# Altium schematic symbol library AutoBikeRev.SchLib: 23 symbols
Pins are listed as number, name and electrical type; pins without a type are passive.

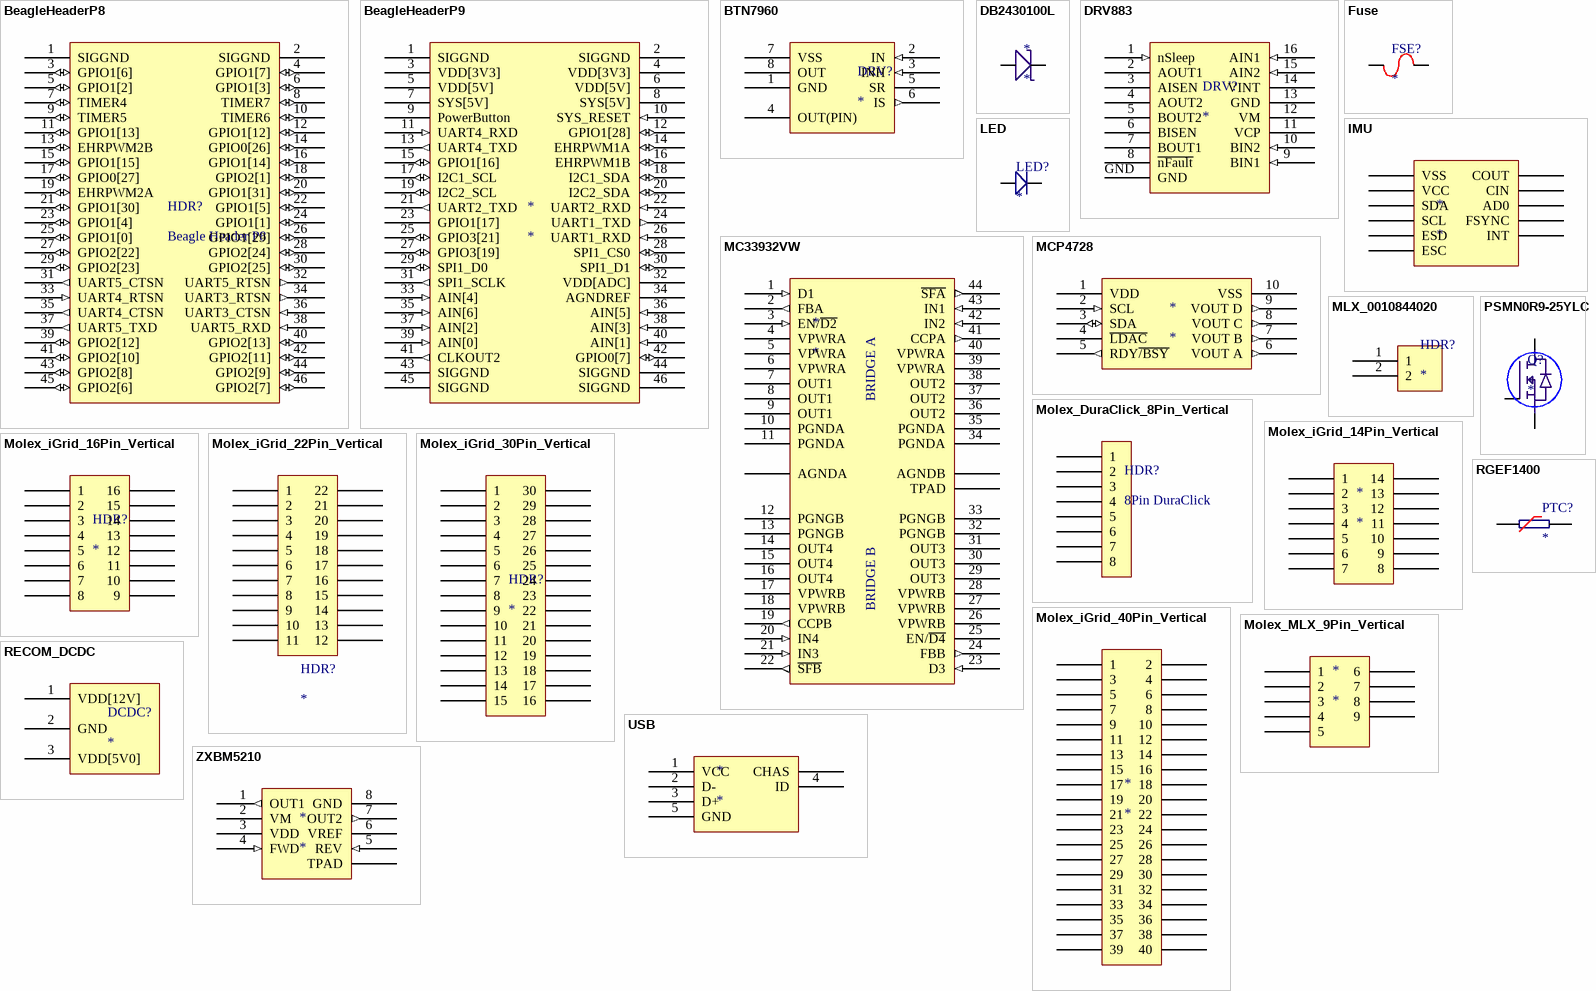
[diagram p0: symbols BeagleHeaderP8 to ZXBM5210]

## BeagleHeaderP8
designator HDR?, comment Beagle Header P8
footprint 46PinHeader
pins: 1 SIGGND (power), 2 SIGGND (power), 3 GPIO1[6] (io), 4 GPIO1[7] (io), 5 GPIO1[2] (io), 6 GPIO1[3] (io), 7 TIMER4 (io), 8 TIMER7 (io), 9 TIMER5 (io), 10 TIMER6 (io), 11 GPIO1[13] (io), 12 GPIO1[12] (io), 13 EHRPWM2B (io), 14 GPIO0[26] (io), 15 GPIO1[15] (io), 16 GPIO1[14] (io), 17 GPIO0[27] (io), 18 GPIO2[1] (io), 19 EHRPWM2A (io), 20 GPIO1[31] (io), 21 GPIO1[30] (io), 22 GPIO1[5] (io), 23 GPIO1[4] (io), 24 GPIO1[1] (io), 25 GPIO1[0] (io), 26 GPIO1[29] (io), 27 GPIO2[22] (io), 28 GPIO2[24] (io), 29 GPIO2[23] (io), 30 GPIO2[25] (io), 31 UART5_CTSN (out), 32 UART5_RTSN (out), 33 UART4_RTSN (in), 34 UART3_RTSN (out), 35 UART4_CTSN (out), 36 UART3_CTSN (in), 37 UART5_TXD (out), 38 UART5_RXD (in), 39 GPIO2[12] (io), 40 GPIO2[13] (io), 41 GPIO2[10] (io), 42 GPIO2[11] (io), 43 GPIO2[8] (io), 44 GPIO2[9] (io), 45 GPIO2[6] (io), 46 GPIO2[7] (io)

## BeagleHeaderP9
designator *
footprint 46PinHeader
pins: 1 SIGGND (power), 2 SIGGND (power), 3 VDD[3V3] (power), 4 VDD[3V3] (power), 5 VDD[5V] (power), 6 VDD[5V] (power), 7 SYS[5V] (power), 8 SYS[5V], 9 PowerButton, 10 SYS_RESET (in), 11 UART4_RXD (in), 12 GPIO1[28] (io), 13 UART4_TXD (out), 14 EHRPWM1A (io), 15 GPIO1[16] (io), 16 EHRPWM1B (io), 17 I2C1_SCL (io), 18 I2C1_SDA (io), 19 I2C2_SCL (io), 20 I2C2_SDA (io), 21 UART2_TXD (out), 22 UART2_RXD (in), 23 GPIO1[17], 24 UART1_TXD (out), 25 GPIO3[21] (io), 26 UART1_RXD (in), 27 GPIO3[19] (io), 28 SPI1_CS0 (io), 29 SPI1_D0 (io), 30 SPI1_D1 (io), 31 SPI1_SCLK (out), 32 VDD[ADC] (power), 33 AIN[4] (in), 34 AGNDREF (power), 35 AIN[6] (in), 36 AIN[5] (in), 37 AIN[2] (in), 38 AIN[3] (in), 39 AIN[0] (in), 40 AIN[1] (in), 41 CLKOUT2 (out), 42 GPIO0[7] (io), 43 SIGGND (power), 44 SIGGND (power), 45 SIGGND (power), 46 SIGGND (power)

## BTN7960
designator DRV?
footprint BTN7960
pins: 1 GND (power), 2 IN (in), 3 INH (in), 4 OUT(PIN) (power), 5 SR, 6 IS (out), 7 VSS (power), 8 OUT (power)

## DB2430100L
designator *
footprint DB2430100L
pins: A 12, K 11

## DRV883
designator DRV?
footprint TSOP65P640X120_HS-17M (TSOP, 16-Leads, Body 5.00x4.40mm, Pitch 0.65mm, Thermal Pad 2.31.2x2.46.2mm, IPC Low Density)
pins: 1 nSleep (in), 2 AOUT1 (power), 3 AISEN, 4 AOUT2 (power), 5 BOUT2 (power), 6 BISEN, 7 BOUT1 (power), 8 ~{nFault} (oc), 9 BIN1 (in), 10 BIN2 (in), 11 VCP (power), 12 VM (power), 13 GND (power), 14 VINT, 15 AIN2 (in), 16 AIN1 (in), GND (power)

## Fuse
designator FSE?
footprint KEYSTONE_3576 (FUSE BLOCK CARTRIDGE 30A PCB)
pins: 1, 2

## IMU
designator *
footprint IMU
pins: 1 VSS (power), 2 VCC, 3 SDA, 4 SCL, 5 ESD, 6 ESC, 7 COUT, 8 CIN, 9 AD0, 10 FSYNC, 11 INT

## LED
designator LED?
ISP752R
footprint RESC1608L (Chip Resistor, Body 1.6x0.8mm, IPC High Density)
pins: 1 15, 2 16

## MC33932VW
designator *
footprint SOP65P1420X340_HS-45M (SOP, 44-Leads, Body 15.90x11.00mm, Pitch 0.65mm, Thermal Pad 12.60.2x7.30.2mm, IPC Low Density)
footprint SOP65P1420X340_HS-45MNH (SOP, 44-Leads, Body 15.90x11.00mm, Pitch 0.65mm, Thermal Pad 12.60.2x7.30.2mm, IPC Low Density)
pins: 1 D1 (in) "Disable Input 1 (active high)", 2 FBA (out) "Current Feedback A", 3 EN/~{D2} (in) "Enable Bridge A", 4 VPWRA (power) "Power Input A", 5 VPWRA (power) "Power Input A", 6 VPWRA (power) "Power Input A", 7 OUT1 (power) "Power Output 1", 8 OUT1 (power) "Power Output 1", 9 OUT1 (power) "Power Output 1", 10 PGNDA (power) "Power Ground A", 11 PGNDA (power) "Power Ground A", 12 PGNGB (power) "Power Ground B", 13 PGNGB (power) "Power Ground B", 14 OUT4 (power) "Power Output 4", 15 OUT4 (power) "Power Output 4", 16 OUT4 (power) "Power Output 4", 17 VPWRB (power) "Power Input B", 18 VPWRB (power) "Power Input B", 19 CCPB (out) "Charge Pump Capacitor B", 20 IN4 (in) "Output 4 Control", 21 IN3 (in) "Output 3 Control", 22 ~{SFB} (out) "Status Flag B", 23 D3 (in) "Disable Input 3", 24 FBB (out) "Current Feedback B", 25 EN/~{D4} "Enable Bridge B", 26 VPWRB (power) "Power Input B", 27 VPWRB (power) "Power Input B", 28 VPWRB (power) "Power Input B", 29 OUT3 (power) "Power Output 3", 30 OUT3 (power) "Power Output 3", 31 OUT3 (power) "Power Output 3", 32 PGNGB (power) "Power Ground B", 33 PGNGB (power) "Power Ground B", 34 PGNDA (power) "Power Ground A", 35 PGNDA (power) "Power Ground A", 36 OUT2 (power) "Power Output 2", 37 OUT2 (power) "Power Output 2", 38 OUT2 (power) "Power Output 2", 39 VPWRA (power) "Power Input A", 40 VPWRA (power) "Power Input A", 41 CCPA (out) "Charge Pump Capacitor A", 42 IN2 (in) "Output 2 Control", 43 IN1 (in) "Output 1 Control", 44 ~{SFA} (out) "Status Flag A", TABA AGNDA (power), TABB AGNDB (power), TPAD (power)
text: BRIDGE A; BRIDGE B

## MCP4728
designator *
footprint TSSOP50P490X110-10M (TSSOP, 10-Leads, Body 3.00x3.00mm, Pitch 0.50mm, IPC Low Density)
pins: 1 VDD (power), 2 SCL (in), 3 SDA (io), 4 ~{LDAC}, 5 RDY~{/BSY} (out), 6 VOUT A (out), 7 VOUT B (out), 8 VOUT C (out), 9 VOUT D (out), 10 VSS (power)

## MLX_0010844020
designator HDR?
footprint MLX_0010844020 (6.35mm Pitch MLX™ Power Connector Header, Vertical, 2 Circuits, PA Polyamide Nylon 6/6 94V-2, Tin (Sn) Plating, White)
pins: 1, 2

## Molex_DuraClick_8Pin_Vertical
designator HDR?, comment 8Pin DuraClick
footprint Molex_DuraClick_8Pin_Vertical
pins: A1 1, A2 2, A3 3, A4 4, A5 5, A6 6, A7 7, A8 8

## Molex_iGrid_14Pin_Vertical
designator *
footprint Molex_iGrid_14Pin_Vertical (2.00mm Pitch iGrid™ Wire-to-Board Header, Dual Row, Vertical, with PCB Locator, 14 Circuits, Lead-Free)
pins: 1, 2, 3, 4, 5, 6, 7, 8, 9, 10, 11, 12, 13, 14

## Molex_iGrid_16Pin_Vertical
designator HDR?
footprint Molex_iGrid_16Pin_Vertical (2.00mm Pitch iGrid™ Wire-to-Board Header, Dual Row, Vertical, with PCB Locator, 16 Circuits, Lead-Free)
pins: 1, 2, 3, 4, 5, 6, 7, 8, 9, 10, 11, 12, 13, 14, 15, 16

## Molex_iGrid_22Pin_Vertical
designator HDR?
footprint MOLEX_iGrid_22Pin_Vertical (2.00mm Pitch iGrid™ Wire-to-Board Header, Dual Row, Vertical, with PCB Locator, 22 Circuits, Lead-Free)
pins: 1, 2, 3, 4, 5, 6, 7, 8, 9, 10, 11, 12, 13, 14, 15, 16, 17, 18, 19, 20, 21, 22

## Molex_iGrid_30Pin_Vertical
designator HDR?
footprint MOLEX_iGrid_30Pin_Vertical (2.00mm Pitch iGrid™ Wire-to-Board Header, Dual Row, Vertical, with PCB Locator, 30 Circuits, Lead-Free)
pins: 1, 2, 3, 4, 5, 6, 7, 8, 9, 10, 11, 12, 13, 14, 15, 16, 17, 18, 19, 20, 21, 22, 23, 24, 25, 26, 27, 28, 29, 30

## Molex_iGrid_40Pin_Vertical
designator *
footprint MOLEX_iGrid_40Pin_Vertical (2.00mm Pitch iGrid™ Wire-to-Board Header, Dual Row, Vertical, with PCB Locator, 40 Circuits, Lead-Free)
pins: 1, 2, 3, 4, 5, 6, 7, 8, 9, 10, 11, 12, 13, 14, 15, 16, 17, 18, 19, 20, 21, 22, 23, 24, 25, 26, 27, 28, 29, 30, 31, 32, 33, 34, 35, 36, 37, 38, 39, 40

## Molex_MLX_9Pin_Vertical
designator *
footprint Molex_MLX_9Pin_Vertical (6.35mm Pitch MLX™ Power Connector Header, Vertical, 9 Circuits, PA Polyamide Nylon 6/6 94V-2, Tin (Sn) Plating, White)
pins: 1, 2, 3, 4, 5, 6, 7, 8, 9

## PSMN0R9-25YLC
designator Q?
footprint DPAK127P600X120-5N2 (TO, 5-Pads, Body 5.15x5.86mm (max), IPC Medium Density)
pins: 1 S, 2 G, 3 D

## RECOM_DCDC
designator DCDC?
footprint RECOM_1.5A_12V_5V (Recom 12V to 5V dc/dc converter)
pins: 1 VDD[12V], 2 GND, 3 VDD[5V0]

## RGEF1400
designator PTC?
footprint RGEF1400 (PTC Current Limiter)
pins: 1 (power), 2 (power)

## USB
designator *
footprint USB (CD_1734753_A1)
pins: 1 VCC, 2 D-, 3 D+, 4 ID, 5 GND, CHAS

## ZXBM5210
designator *
footprint SO-8EP (ZXBM5210-SP-13)
pins: 1 OUT1 (out) "Driver Output 1", 2 VM (power) "Motor Supply", 3 VDD (power) "Main Power Supply (Logicish)", 4 FWD (in) "Forward Direction", 5 REV (in) "Reverse Direction", 6 VREF "Internal PWM Duty", 7 OUT2 (out) "Driver Output 2", 8 GND (power), TPAD